# Altium schematic symbol library STM32G030F6P6.SchLib: 1 symbol
Pins are listed as number, name and electrical type; pins without a type are passive.

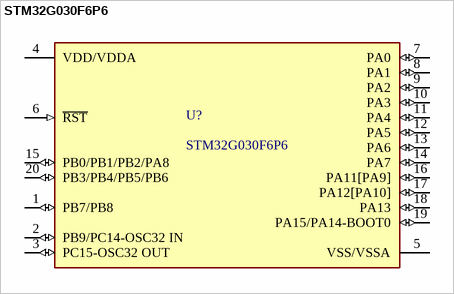
[diagram p0: symbol STM32G030F6P6]

## STM32G030F6P6
designator U?
SOIC-20
footprint FP-TSSOP20-YA-IPC_A
footprint FP-TSSOP20-YA-IPC_B
footprint FP-TSSOP20-YA-IPC_C
footprint FP-TSSOP20-YA-MFG
pins: 1 PB7/PB8 (io), 2 PB9/PC14-OSC32 IN (io), 3 PC15-OSC32 OUT (io), 4 VDD/VDDA (power), 5 VSS/VSSA (power), 6 ~{RST} (in), 7 PA0 (io), 8 PA1 (io), 9 PA2 (io), 10 PA3 (io), 11 PA4 (io), 12 PA5 (io), 13 PA6 (io), 14 PA7 (io), 15 PB0/PB1/PB2/PA8 (io), 16 PA11[PA9] (io), 17 PA12[PA10] (io), 18 PA13 (io), 19 PA15/PA14-BOOT0 (io), 20 PB3/PB4/PB5/PB6 (io)